# EAGLE library part EHF-120-01-XX-D-RA (library EHF-120-01-XX-D-RA)
0.050"EJECTOR HEADER ASSEMBLY,40PINS.
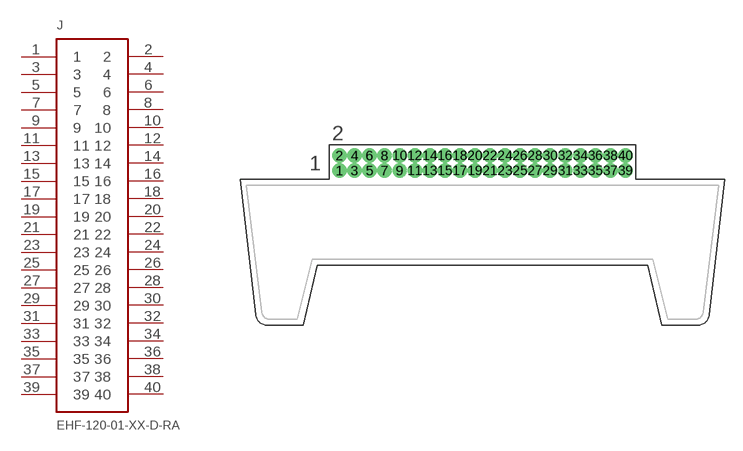
[diagram p0: symbol with the pads of EHF-120-01-XX-D-RA; footprint EHF-120-01-XX-D-RA]

Designator prefix J

## EHF-120-01-XX-D-RA  [EHF-120-01-XX-D-RA]
1  1
2  2
3  3
4  4
5  5
6  6
7  7
8  8
9  9
10  10
11  11
12  12
13  13
14  14
15  15
16  16
17  17
18  18
19  19
20  20
21  21
22  22
23  23
24  24
25  25
26  26
27  27
28  28
29  29
30  30
31  31
32  32
33  33
34  34
35  35
36  36
37  37
38  38
39  39
40  40

## Footprint EHF-120-01-XX-D-RA (pad centres in mm)
0.050"EJECTOR HEADER ASSEMBLY,40PINS
drill 0.711 pad 1.016 round: 1 -12.065,1.27; 2 -12.065,2.54; 3 -10.795,1.27; 4 -10.795,2.54; 5 -9.525,1.27; 6 -9.525,2.54; 7 -8.255,1.27; 8 -8.255,2.54; 9 -6.985,1.27; 10 -6.985,2.54; 11 -5.715,1.27; 12 -5.715,2.54; 13 -4.445,1.27; 14 -4.445,2.54; 15 -3.175,1.27; 16 -3.175,2.54; 17 -1.905,1.27; 18 -1.905,2.54; 19 -0.635,1.27; 20 -0.635,2.54; 21 0.635,1.27; 22 0.635,2.54; 23 1.905,1.27; 24 1.905,2.54; 25 3.175,1.27; 26 3.175,2.54; 27 4.445,1.27; 28 4.445,2.54; 29 5.715,1.27; 30 5.715,2.54; 31 6.985,1.27; 32 6.985,2.54; 33 8.255,1.27; 34 8.255,2.54; 35 9.525,1.27; 36 9.525,2.54; 37 10.795,1.27; 38 10.795,2.54; 39 12.065,1.27; 40 12.065,2.54